# EAGLE library part BOB-12009 (library MILESTONE4LIB_A)
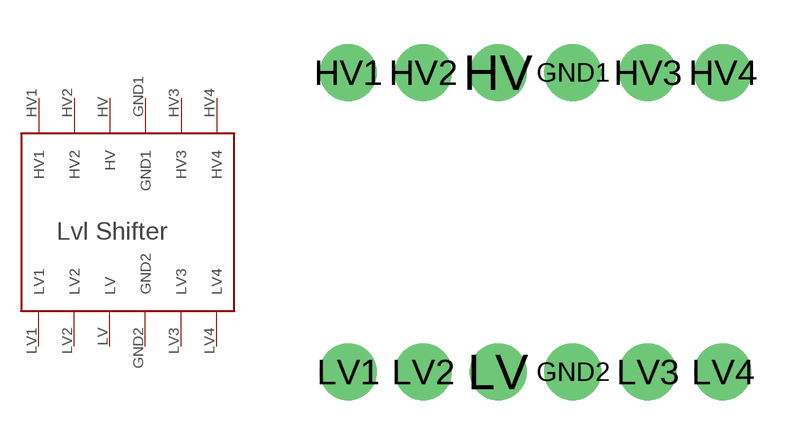
[diagram p1: symbol with the pads of BSS138; footprint BSS138]

Designator prefix -

## BOB-12009  [BSS138]
GND1  GND1
GND2  GND2
HV  HV
HV1  HV1
HV2  HV2
HV3  HV3
HV4  HV4
LV  LV
LV1  LV1
LV2  LV2
LV3  LV3
LV4  LV4

## Footprint BSS138 (pad centres in mm)
drill 1.016 pad 1.93: GND1 1.27,5.08; GND2 1.27,-5.08; HV -1.27,5.08; HV1 -6.35,5.08; HV2 -3.81,5.08; HV3 3.81,5.08; HV4 6.35,5.08; LV -1.27,-5.08; LV1 -6.35,-5.08; LV2 -3.81,-5.08; LV3 3.81,-5.08; LV4 6.35,-5.08